# Altium footprint library CH374HUB.PcbLib: 12 footprints
Each footprint in its own frame and in the unit in brackets; x right, y up, seen from the top. Pads: shape width x height; smd on the part's side, far side on the other; paste and mask are expansions set on the pad; w line width, h text height; cw(c..) or ccw(c..) is an arc to the next point about the centre after c.
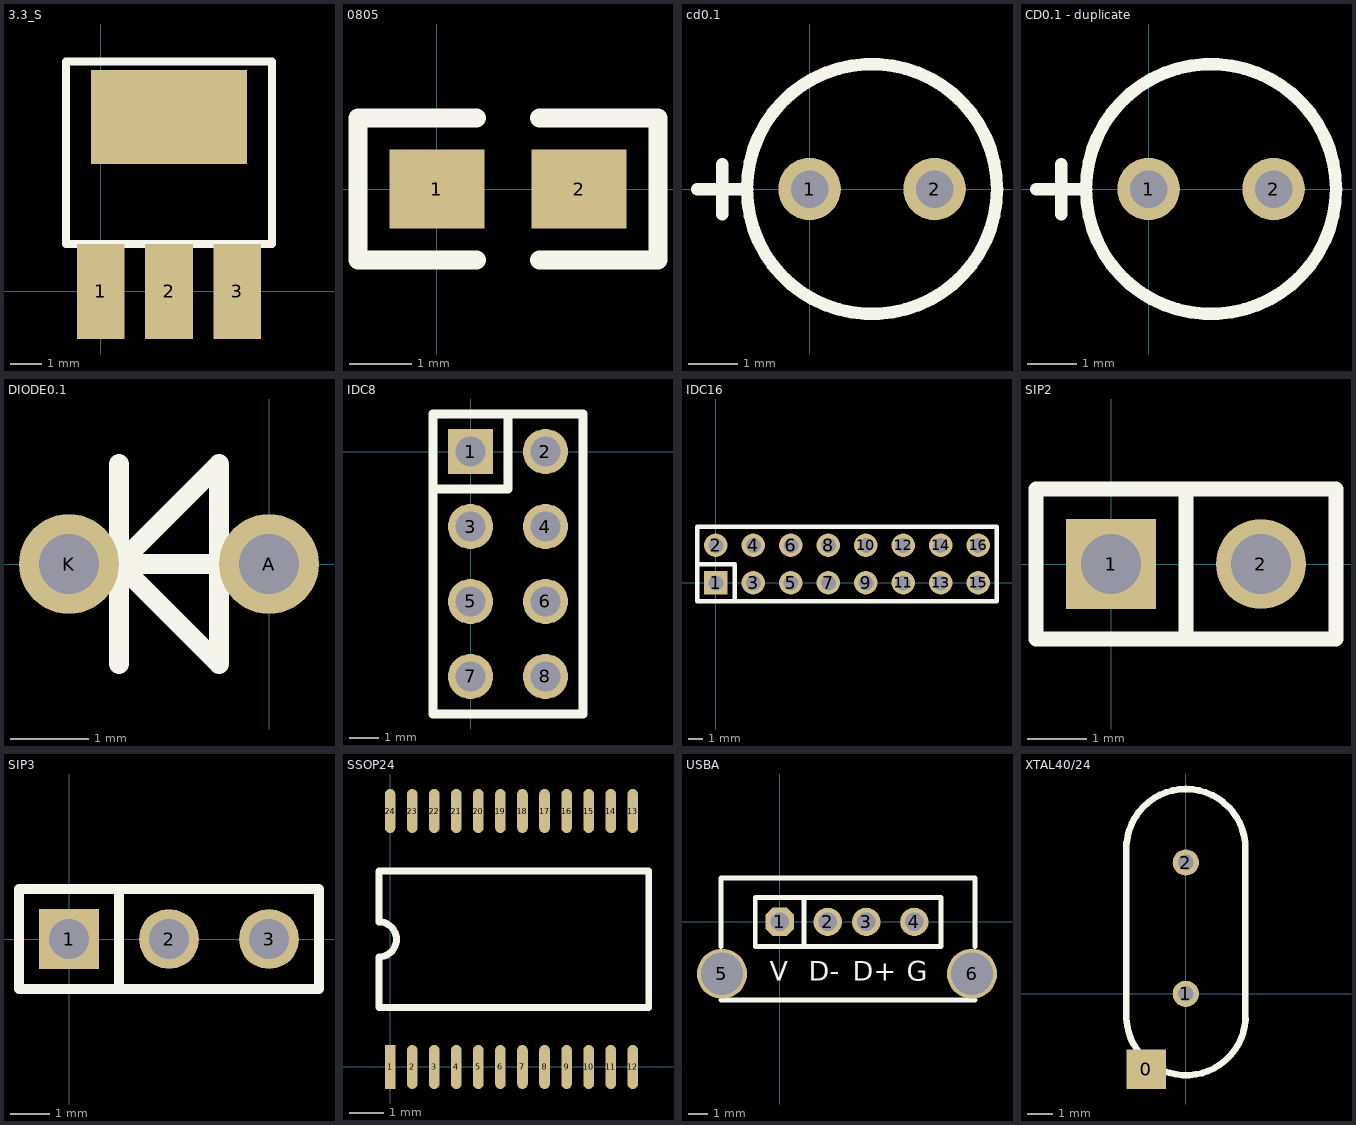
[diagram p0: the footprints below, top view; thin cyan lines are the x and y axes]

## 3.3_S [mil]
pads (4):
  rect 60x120 smd: 1(0,0) 2(86,0) 3(172,0)
  rect 196.85x118.11 smd: ""(86,220)
Top Overlay:
  lines w10: -44,60 216,60 216,290 -44,290 -44,60

## 0805 [mil]
pads (2):
  rect 60x50 smd: 1(0,0) 2(90,0)
Top Overlay:
  lines w12: 25,-45 -50,-45 -50,45 25,45 ; 65,-45 140,-45 140,45 65,45

## cd0.1 [mil]
pads (2):
  round 50 hole 30: 1(0,0) 2(100,0)
Top Overlay:
  circle w10: c50,0 r100
  lines w10: -90,0 -50,0 ; -70,-20 -70,20

## CD0.1 - duplicate [mil]
pads (2):
  round 50 hole 30: 1(0,0) 2(100,0)
Top Overlay:
  circle w10: c50,0 r100
  lines w10: -90,0 -50,0 ; -70,-20 -70,20

## DIODE0.1 [mil]
pads (2):
  round 50 hole 30: A(0,0) K(-100,0)
Top Overlay:
  lines w10: -100,0 0,0 ; -75,-50 -75,50 ; -75,0 -25,-50 -25,50 -75,0

## IDC8 [mil]
pads (8):
  rect 60x60 hole 40: 1(0,0)
  round 60 hole 40: 2(100,0) 3(0,-100) 4(100,-100) 5(0,-200) 6(100,-200) 7(0,-300) 8(100,-300)
Top Overlay:
  lines w12: -50,-50 50,-50 50,50 ; -50,-350 150,-350 150,50 -50,50 -50,-350

## IDC16 [mil]
pads (16):
  rect 62x62 hole 40: 1(0,0)
  round 62 hole 40: 2(0,100) 3(100,0) 4(100,100) 5(200,0) 6(200,100) 7(300,0) 8(300,100) 9(400,0) 10(400,100) 11(500,0) 12(500,100) 13(600,0) 14(600,100) 15(700,0) 16(700,100)
Top Overlay:
  lines w12: -50,50 50,50 50,-50 ; -50,-50 750,-50 750,150 -50,150 -50,-50

## SIP2 [mil]
pads (2):
  rect 60x60 hole 40: 1(0,0)
  round 60 hole 40: 2(100,0)
Top Overlay:
  lines w10: 50,-50 50,50 ; -50,-50 -50,50 150,50 150,-50 -50,-50

## SIP3 [mil]
pads (3):
  rect 60x60 hole 40: 1(0,0)
  round 60 hole 40: 2(100,0) 3(200,0)
Top Overlay:
  lines w10: 50,-50 50,50 ; -50,-50 250,-50 250,50 -50,50 -50,-50

## SSOP24 [mil]
pads (24):
  rect 12x50 smd: 1(0,0)
  oval 12x50 smd: 2(25,0) 3(50,0) 4(75,0) 5(100,0) 6(125,0) 7(150,0) 8(175,0) 9(200,0) 10(225,0) 11(250,0) 12(275,0) 13(275,290) 14(250,290) 15(225,290) 16(200,290) 17(175,290) 18(150,290) 19(125,290) 20(100,290) 21(75,290) 22(50,290) 23(25,290) 24(0,290)
Top Overlay:
  lines w7.87: -12.79,124 -12.79,67.24 293.11,67.24 293.11,221.97 -12.79,221.97 -12.79,164 ; -12.8,124.61 ccw(c-12.79,144.61) -12.79,164.61

## USBA [mm]
pads (6):
  oct 1.473x1.473 hole 0.965: 1(0,0)
  round 1.473 hole 0.965: 2(2.5,0) 3(4.5,0) 4(7,0)
  round 2.6 hole 2.2: 5(-3,-2.7) 6(10,-2.7)
Top Overlay:
  lines w0.254: -3.048,-4.064 10.16,-4.064 ; -3.048,-1.27 -3.048,2.286 10.16,2.286 10.16,-1.27 ; 1.27,-1.27 1.27,1.27 ; -1.27,-1.27 -1.27,1.27 8.382,1.27 8.382,-1.27 -1.27,-1.27
  text "G" at 6.604,-3.048 h1.02
  text "V" at -0.508,-3.048 h1.02
  text "D+" at 3.81,-3.048 h1.02
  text "D-" at 1.524,-3.048 h1.02

## XTAL40/24 [mil]
pads (3):
  rect 60x60 smd: 0(-60,-115)
  round 40 hole 24: 1(0,0) 2(0,200)
Top Overlay:
  lines w10: -90.55,229.92 -90.55,-37.8 ccw(c0.33,-33.12) 91.19,-38.04 ; -90.25,229.97 cw(c0.15,221.22) 90.55,229.92 90.55,-38